# Altium footprint library lib_alps.PcbLib: 1 footprints
Each footprint in its own frame and in the unit in brackets; x right, y up, seen from the top. Pads: shape width x height; smd on the part's side, far side on the other; paste and mask are expansions set on the pad; w line width, h text height; cw(c..) or ccw(c..) is an arc to the next point about the centre after c.
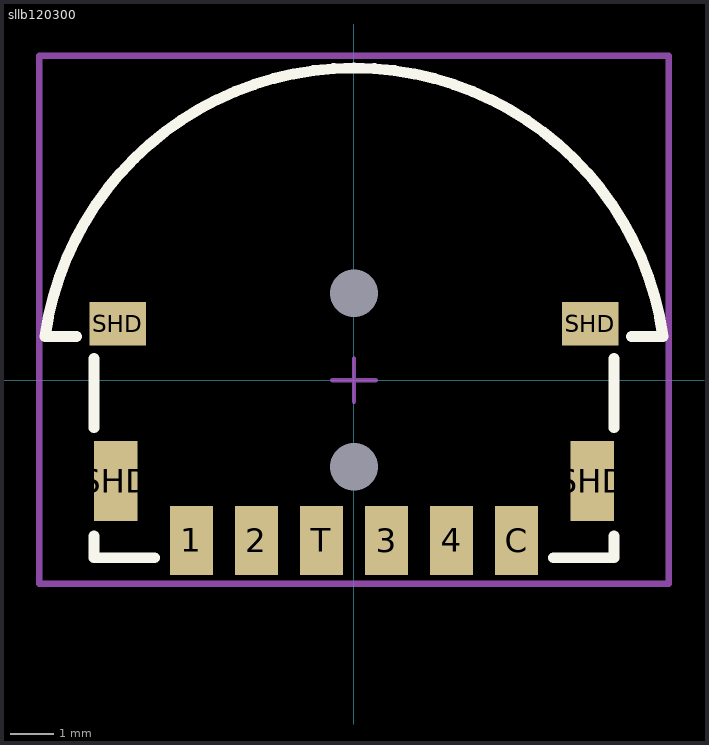
[diagram p0: the footprint, top view; thin cyan lines are the x and y axes]

## sllb120300 [mm]
pads (12):
  rect 1x1.6 smd: 1(-3.75,-3.7) 2(-2.25,-3.7) 3(0.75,-3.7) 4(2.25,-3.7) C(3.75,-3.7) T(-0.75,-3.7)
  rrect100% 0x0 hole 1.1 unplated: MNT(0,-2) MNT(0,2)
  rect 1x1.85 smd: SHD(-5.5,-2.325) SHD(5.5,-2.325)
  rect 1.3x1 smd: SHD(-5.45,1.3) SHD(5.45,1.3)
Top Overlay:
  lines w0.25: -6.402,1.002 -7.13,1.002 cw(c0,0) 7.13,1.002 6.402,1.002 ; -6,-3.6 -6,-4.1 -4.6,-4.1 ; -6,-1.1 -6,0.5 ; 4.6,-4.1 6,-4.1 6,-3.6 ; 6,-1.1 6,0.5
Mechanical 15:
  lines w0.1: -0.5,0 0.5,0 ; 0,-0.5 0,0.5
  lines w0.152: -7.262,-4.7 -7.262,7.481 7.263,7.481 7.263,-4.7 -7.262,-4.7
3D body "SLLB120300.STEP": height 2.98, standoff -0.62, extent -7.262,-4.213 7.263,7.481